# EAGLE library part PADS (library tms-rgb)
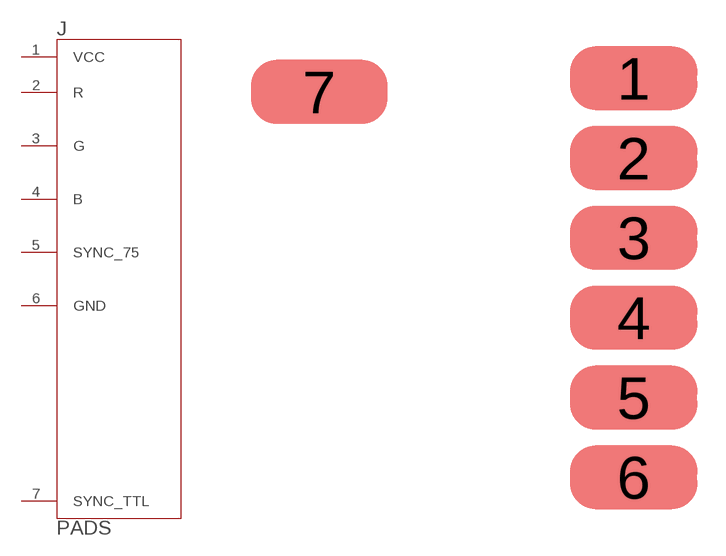
[diagram p6: symbol with the pads of PADS; footprint PADS]

Designator prefix J

## PADSRGB  [PADS]
1  VCC  pas
2  R  pas
3  G  pas
4  B  pas
5  SYNC_75  pas
6  GND  pas
7  SYNC_TTL  pas

## Footprint PADS (pad centres in mm)
smd 3.556 x 1.778: 1 0,0; 2 0,-2.227; 3 0,-4.453; 4 0,-6.68; 5 0,-8.907; 6 0,-11.134
smd 3.81 x 1.778: 7 -8.763,-0.381